# Altium footprint library MSOP-10_MS_LIT.PcbLib: 1 footprints
Each footprint in its own frame and in the unit in brackets; x right, y up, seen from the top. Pads: shape width x height; smd on the part's side, far side on the other; paste and mask are expansions set on the pad; w line width, h text height; cw(c..) or ccw(c..) is an arc to the next point about the centre after c.
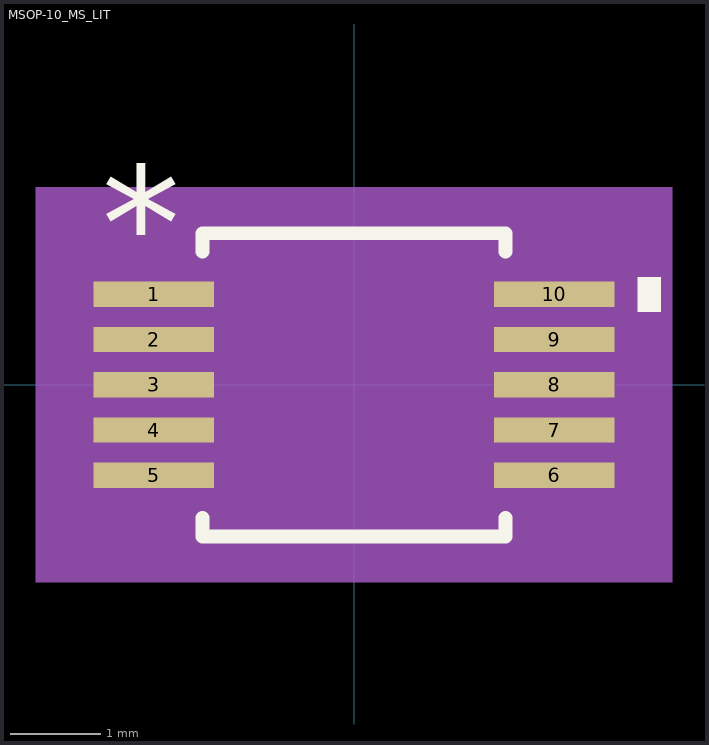
[diagram p0: the footprint, top view; thin cyan lines are the x and y axes]

## MSOP-10_MS_LIT [mil]
pads (10):
  rect 52.5x11 smd paste+0 mask+0: 1(-87.25,39.4) 2(-87.25,19.7) 3(-87.25,0) 4(-87.25,-19.7) 5(-87.25,-39.4) 6(87.25,-39.4) 7(87.25,-19.7) 8(87.25,0) 9(87.25,19.7) 10(87.25,39.4)
Top Overlay:
  region: 123.5,46.9 133.5,46.9 133.5,31.9 123.5,31.9
  lines w6: -66,-58 -66,-66 66,-66 66,-58 ; -66,58 -66,66 66,66 66,58
  text "*" at -109.75,45.4 h50
Mechanical 5:
  region: 138.5,-86 -138.5,-86 -138.5,86 138.5,86
Mechanical 13:
  lines w0: -12,61 ccw(c0,61) 12,61
  lines w1: -99.5,-44.9 -99.5,-33.9 -61,-33.9 -61,-44.9 -99.5,-44.9 ; -99.5,-25.2 -99.5,-14.2 -61,-14.2 -61,-25.2 -99.5,-25.2 ; -99.5,-5.5 -99.5,5.5 -61,5.5 -61,-5.5 -99.5,-5.5 ; -99.5,14.2 -99.5,25.2 -61,25.2 -61,14.2 -99.5,14.2 ; -99.5,33.9 -99.5,44.9 -61,44.9 -61,33.9 -99.5,33.9 ; -61,-61 61,-61 61,61 -61,61 -61,-61 ; 61,-44.9 61,-33.9 99.5,-33.9 99.5,-44.9 61,-44.9 ; 61,-25.2 61,-14.2 99.5,-14.2 99.5,-25.2 61,-25.2 ; 61,-5.5 61,5.5 99.5,5.5 99.5,-5.5 61,-5.5 ; 61,14.2 61,25.2 99.5,25.2 99.5,14.2 61,14.2 ; 61,33.9 61,44.9 99.5,44.9 99.5,33.9 61,33.9
  text "*" at -58.5,8 h50
Mechanical 15:
  region: -71,-54.9 -123.5,-54.9 -123.5,54.9 -71,54.9 -71,71 71,71 71,54.9 123.5,54.9 123.5,-54.9 71,-54.9 71,-71 -71,-71
  lines w6: -123.5,-54.9 -123.5,54.9 -71,54.9 -71,71 71,71 71,54.9 123.5,54.9 123.5,-54.9 71,-54.9 71,-71 -71,-71 -71,-54.9 -123.5,-54.9
3D body "msop-10.SLDPRT": height 39.87, standoff -5.41, extent -96.46,-59.06 96.46,59.06